# Altium schematic symbol library V585ME06.SchLib: 1 symbol
Pins are listed as number, name and electrical type; pins without a type are passive.

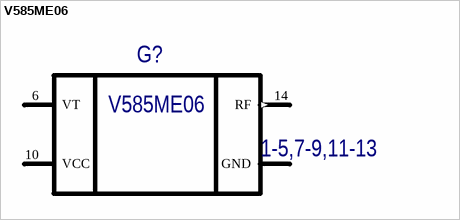
[diagram p0: symbol V585ME06]

## V585ME06
designator G?  (value not drawn)
BCPId: *; Type: Генератор; ManufacturerPartNumber: V585ME06
footprint V585ME06 (Small Size, Surface Mount oscillator)
pins: 1 GND (power) hidden to GND, 2 GND (power) hidden to GND, 3 GND (power) hidden to GND, 4 GND (power) hidden to GND, 5 GND (power) hidden to GND, 6 VT (power), 7 GND (power) hidden to GND, 8 GND (power) hidden to GND, 9 GND (power) hidden to GND, 10 VCC (power), 11 GND (power) hidden to GND, 12 GND (power) hidden to GND, 13 GND (power), 14 RF (out), EPAD (power) hidden to GND "GND"
text: 1-5,7-9,11-13